# EAGLE library part WEBEE_WIFI_CC3200 (library WeeBee)
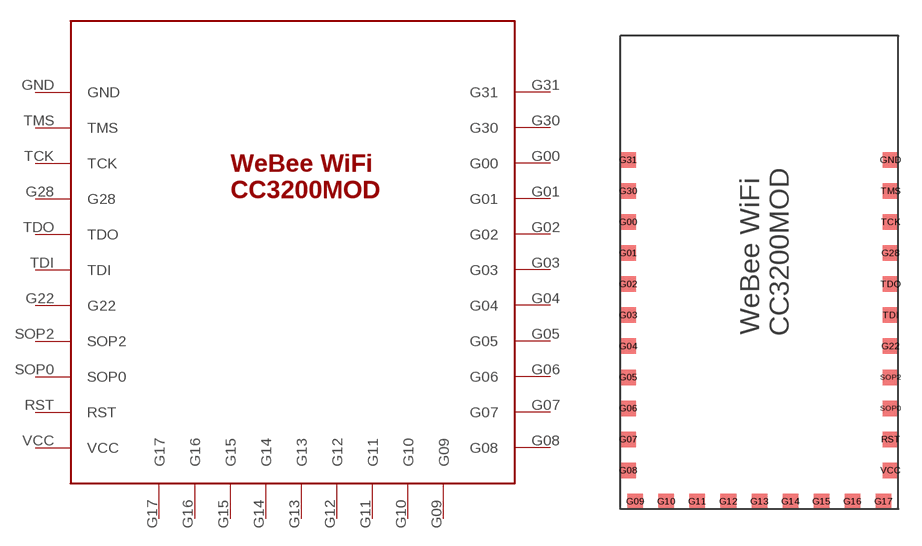
[diagram p0: symbol with the pads of CC3200; footprint CC3200]

Designator prefix -

## WEBEE_WIFI_CC3200  [CC3200]
G00  G00
G01  G01
G02  G02
G03  G03
G04  G04
G05  G05
G06  G06
G07  G07
G08  G08
G09  G09
G10  G10
G11  G11
G12  G12
G13  G13
G14  G14
G15  G15
G16  G16
G17  G17
G22  G22
G28  G28
G30  G30
G31  G31
GND  GND
RST  RST
SOP0  SOP0
SOP2  SOP2
TCK  TCK
TDI  TDI
TDO  TDO
TMS  TMS
VCC  VCC

## Footprint CC3200 (pad centres in mm)
smd 1 x 1: G00 -8.455,7; G01 -8.455,5; G02 -8.455,3; G03 -8.455,1; G04 -8.455,-1; G05 -8.455,-3; G06 -8.455,-5; G07 -8.455,-7; G08 -8.455,-9; G09 -8,-11; G10 -6,-11; G11 -4,-11; G12 -2,-11; G13 0,-11; G14 2,-11; G15 4,-11; G16 6,-11; G17 8,-11; G22 8.455,-1; G28 8.455,5; G30 -8.455,9; G31 -8.455,11; GND 8.455,11; RST 8.455,-7; SOP0 8.455,-5; SOP2 8.455,-3; TCK 8.455,7; TDI 8.455,1; TDO 8.455,3; TMS 8.455,9; VCC 8.455,-9